# Altium schematic symbol library Connectors.schlib: 6 symbols
Pins are listed as number, name and electrical type; pins without a type are passive.

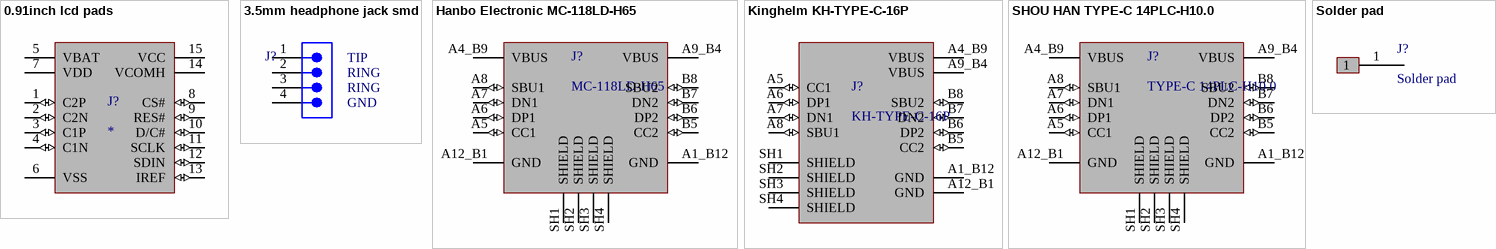
[diagram p0: symbols 0.91inch lcd pads to Solder pad]

## 0.91inch lcd pads
designator J?
footprint 0.91 inch lcd pads
pins: 1 C2P (io), 2 C2N (io), 3 C1P (io), 4 C1N (io), 5 VBAT (power), 6 VSS (power), 7 VDD (power), 8 CS# (io), 9 RES# (io), 10 D/C# (io), 11 SCLK (io), 12 SDIN (io), 13 IREF (io), 14 VCOMH (power), 15 VCC (power)

## 3.5mm headphone jack smd
designator J?, comment SHOU HAN PJ-320D  (value not drawn)
footprint SHOU HAN PJ-320D (3.5mm jack)
pins: 1, 2, 3, 4
text: TIP; RING; GND

## Hanbo Electronic MC-118LD-H65
designator J?, comment MC-118LD-H65
MP: KH-TYPE-C-16P; MF: kinghelm; Value: *; SnapEDA_Link: https://www.snapeda.com/parts/KH-TYPE-C-16P/Ki/view-part/?ref=snap; Check_prices: https://www.snapeda.com/parts/KH-TYPE-C-16P/Ki/view-part/?ref=eda; Availability: Not in stock; Price: None; Package: None
footprint Hanbo Electronic MC-118LD-H65; pin to pad A1_B12>A1+B12 A4_B9>A4+B9 A9_B4>A9+B4 A12_B1>A12+B1 SH1>S SH2>S SH3>S SH4>S
pins: A1_B12 GND (power), A4_B9 VBUS (power), A5 CC1 (io), A6 DP1 (io), A7 DN1 (io), A8 SBU1 (io), A9_B4 VBUS (power), A12_B1 GND (power), B5 CC2 (io), B6 DP2 (io), B7 DN2 (io), B8 SBU2 (io), SH1 SHIELD, SH2 SHIELD, SH3 SHIELD, SH4 SHIELD

## Kinghelm KH-TYPE-C-16P
designator J?, comment KH-TYPE-C-16P
MF: kinghelm; Value: *; SnapEDA_Link: https://www.snapeda.com/parts/KH-TYPE-C-16P/Ki/view-part/?ref=snap; MP: KH-TYPE-C-16P; Check_prices: https://www.snapeda.com/parts/KH-TYPE-C-16P/Ki/view-part/?ref=eda; Availability: Not in stock; Price: None; Package: None
footprint KINGHELM_KH-TYPE-C-16P
pins: A1_B12 GND (power), A4_B9 VBUS (power), A5 CC1 (io), A6 DP1 (io), A7 DN1 (io), A8 SBU1 (io), A9_B4 VBUS (power), A12_B1 GND (power), B5 CC2 (io), B6 DP2 (io), B7 DN2 (io), B8 SBU2 (io), SH1 SHIELD, SH2 SHIELD, SH3 SHIELD, SH4 SHIELD

## SHOU HAN TYPE-C 14PLC-H10.0
designator J?, comment TYPE-C 14PLC-H10.0
Unchecked TYPE-C 14PLC-H10.0 USB 3.1 5A 1 Direct Insert 14P Female -40℃~+85℃ Type-C Plugin USB Connectors ROHS; MP: KH-TYPE-C-16P; MF: kinghelm; Value: *; SnapEDA_Link: https://www.snapeda.com/parts/KH-TYPE-C-16P/Ki/view-part/?ref=snap; Check_prices: https://www.snapeda.com/parts/KH-TYPE-C-16P/Ki/view-part/?ref=eda; Availability: Not in stock; Price: None; Package: None
pins: A1_B12 GND (power), A4_B9 VBUS (power), A5 CC1 (io), A6 DP1 (io), A7 DN1 (io), A8 SBU1 (io), A9_B4 VBUS (power), A12_B1 GND (power), B5 CC2 (io), B6 DP2 (io), B7 DN2 (io), B8 SBU2 (io), SH1 SHIELD, SH2 SHIELD, SH3 SHIELD, SH4 SHIELD

## Solder pad
designator J?
footprint Solder Pad 4X5MM
footprint Solder Pad 3X4MM
pins: 1